# EAGLE library part MICROBUILDER_GPS_FGPMMOPA6H (library Adafruit Ultimate GPS)
GPS Module - MTK MT3339 Chipset, -165dBm sensitivity, 22 channels, 10Hz, auto-select external antenna options
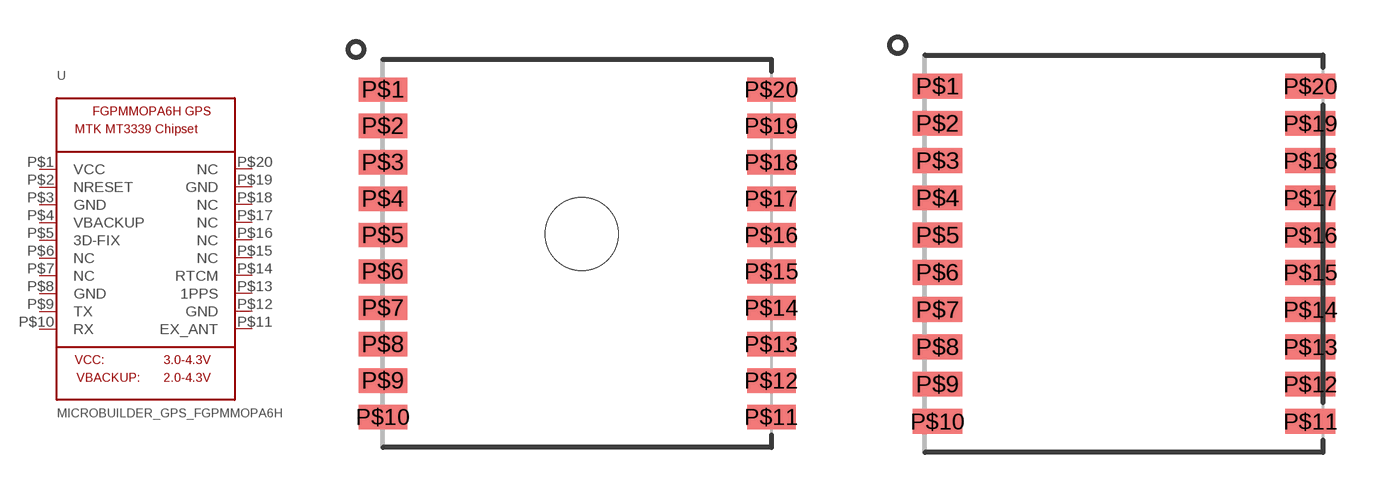
[diagram p0: symbol with the pads of MICROBUILDER_FGPMMOPA6H; footprints MICROBUILDER_FGPMMOPA6H, MICROBUILDER_FGPMMOPA6H_NOHOLE]

Designator prefix U

## MICROBUILDER_GPS_FGPMMOPA6H  [MICROBUILDER_FGPMMOPA6H]
P$1  VCC
P$2  NRESET
P$3  GND
P$4  VBACKUP
P$5  3D-FIX
P$6  NC
P$7  NC
P$8  GND
P$9  TX
P$10  RX
P$11  EX_ANT
P$12  GND
P$13  1PPS
P$14  RTCM
P$15  NC
P$16  NC
P$17  NC
P$18  NC
P$19  GND
P$20  NC

## MICROBUILDER_GPS_FGPMMOPA6HNOHOLE  [MICROBUILDER_FGPMMOPA6H_NOHOLE]
Pads as for MICROBUILDER_FGPMMOPA6H

## Footprint MICROBUILDER_FGPMMOPA6H (pad centres in mm)
smd 2 x 1: P$1 -8,6.75; P$2 -8,5.25; P$3 -8,3.75; P$4 -8,2.25; P$5 -8,0.75; P$6 -8,-0.75; P$7 -8,-2.25; P$8 -8,-3.75; P$9 -8,-5.25; P$10 -8,-6.75; P$11 8,-6.75; P$12 8,-5.25; P$13 8,-3.75; P$14 8,-2.25; P$15 8,-0.75; P$16 8,0.75; P$17 8,2.25; P$18 8,3.75; P$19 8,5.25; P$20 8,6.75
hole 3 at 0.2,0.8

## Footprint MICROBUILDER_FGPMMOPA6H_NOHOLE (pad centres in mm)
smd 2 x 1: P$1 -7.5,6.75; P$2 -7.5,5.25; P$3 -7.5,3.75; P$4 -7.5,2.25; P$5 -7.5,0.75; P$6 -7.5,-0.75; P$7 -7.5,-2.25; P$8 -7.5,-3.75; P$9 -7.5,-5.25; P$10 -7.5,-6.75; P$11 7.5,-6.75; P$12 7.5,-5.25; P$13 7.5,-3.75; P$14 7.5,-2.25; P$15 7.5,-0.75; P$16 7.5,0.75; P$17 7.5,2.25; P$18 7.5,3.75; P$19 7.5,5.25; P$20 7.5,6.75